# Altium schematic symbol library SCH - DRIVER - MOTOR - INFINEON 2EDL05N06PF.SCHLIB: 1 symbol
Pins are listed as number, name and electrical type; pins without a type are passive.

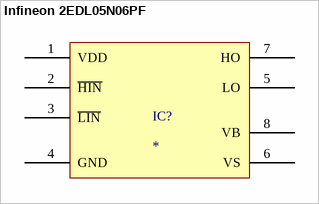
[diagram p0: symbol Infineon 2EDL05N06PF]

## Infineon 2EDL05N06PF
designator IC?
pins: 1 VDD, 2 ~{HIN}, 3 ~{LIN}, 4 GND, 5 LO, 6 VS, 7 HO, 8 VB